# Altium schematic symbol library sd.SCHLIB: 5 symbols
Pins are listed as number, name and electrical type; pins without a type are passive.

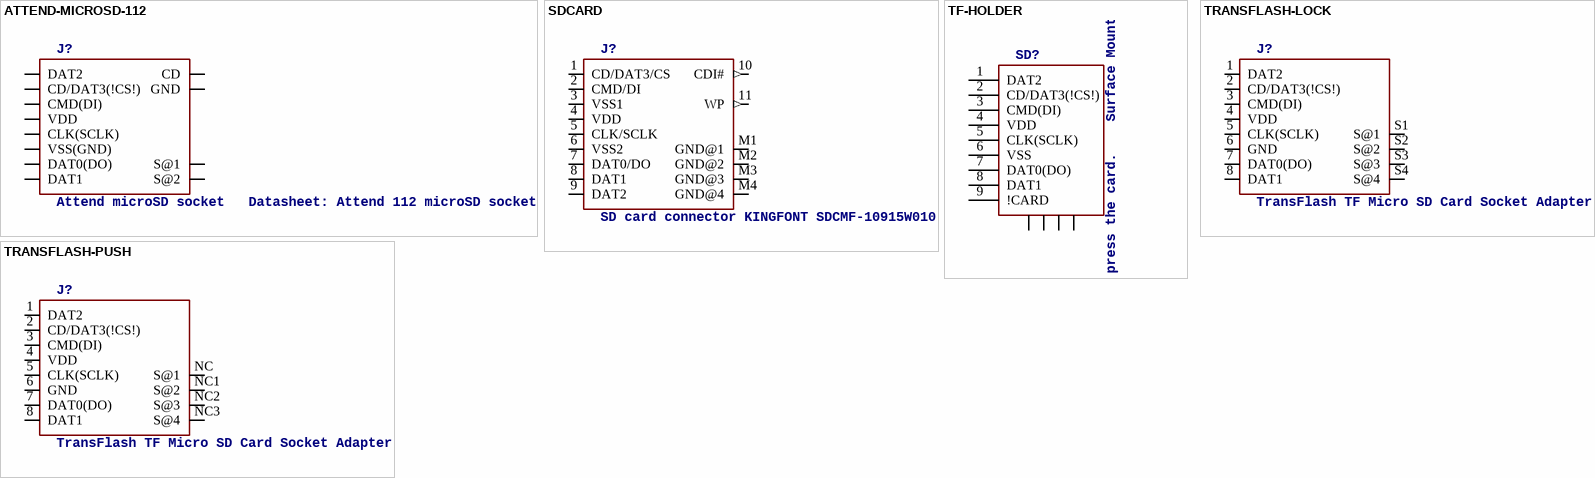
[diagram p0: symbols ATTEND-MICROSD-112 to TRANSFLASH-PUSH]

## ATTEND-MICROSD-112
designator J?, comment Attend microSD socket   Datasheet: Attend 112 microSD socket.
footprint ATTEND-112
pins: CD (oc), CLK CLK(SCLK), CMD CMD(DI), DAT0 DAT0(DO), DAT1, DAT2, DAT3 CD/DAT3(!CS!), GND, S1 S@1, S2 S@2, VDD (power), VSS VSS(GND) (power)

## SDCARD
designator J?, comment SD card connector KINGFONT SDCMF-10915W010
footprint SDCMF-10915W010
pins: 1 CD/DAT3/CS, 2 CMD/DI, 3 VSS1 (power), 4 VDD (power), 5 CLK/SCLK, 6 VSS2 (power), 7 DAT0/DO, 8 DAT1, 9 DAT2, 10 CDI# (out), 11 WP (out), M1 GND@1 (power), M2 GND@2 (power), M3 GND@3 (power), M4 GND@4 (power)

## TF-HOLDER
designator SD?, comment TF / Micro SD socket is PUSH-PUSH type, the card can be pushed into and auto locked and pushed out by simply press the card.    Surface Mounting type.
footprint TF-PULL
pins: 1 DAT2, 2 CD/DAT3(!CS!), 3 CMD(DI), 4 VDD (power), 5 CLK(SCLK), 6 VSS (power), 7 DAT0(DO), 8 DAT1, 9 !CARD, S1, S2, S3, S4

## TRANSFLASH-LOCK
designator J?, comment TransFlash TF Micro SD Card Socket Adapter
footprint TRANSFLASH-LOCK-SOCK
pins: 1 DAT2, 2 CD/DAT3(!CS!), 3 CMD(DI), 4 VDD (power), 5 CLK(SCLK), 6 GND (power), 7 DAT0(DO), 8 DAT1, S1 S@1, S2 S@2, S3 S@3, S4 S@4

## TRANSFLASH-PUSH
designator J?, comment TransFlash TF Micro SD Card Socket Adapter
footprint MICROSD_MICROSD
pins: 1 DAT2, 2 CD/DAT3(!CS!), 3 CMD(DI), 4 VDD (power), 5 CLK(SCLK), 6 GND (power), 7 DAT0(DO), 8 DAT1, NC S@1, NC1 S@2, NC2 S@3, NC3 S@4